# Altium schematic symbol library QUTMS_SwitchLibrary.SchLib: 6 symbols
Pins are listed as number, name and electrical type; pins without a type are passive.

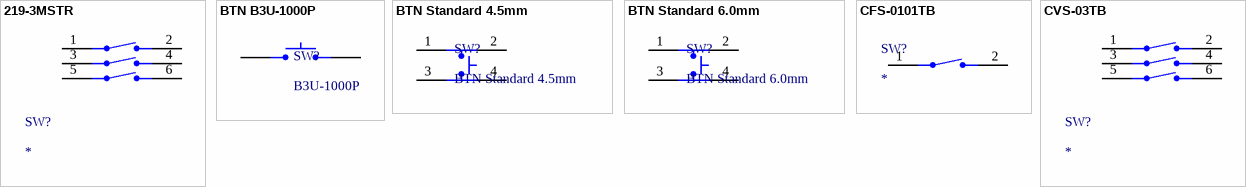
[diagram p0: symbols 219-3MSTR to CVS-03TB]

## 219-3MSTR
designator SW?
SWITCH SLIDE DIP SPST 100MA 6V
footprint 219-3MSTR
pins: 1, 2, 3, 4, 5, 6

## BTN B3U-1000P
designator SW?, comment B3U-1000P
Omron B3U-1000P Ultra Miniture Switch; ComponentLink1Description: LCSC; ComponentLink1URL: https://lcsc.com/product-detail/Tactile-Switches_BRIGHT-TSA063G50-250_C294565.html
footprint BTN B3U-1000P (OMRON B3U-1000P)
pins: 1, 2

## BTN Standard 4.5mm
designator SW?
Standard 4.5mm X 4.5mm momentary button; ComponentLink1Description: LCSC; ComponentLink1URL: https://lcsc.com/product-detail/Tactile-Switches_BRIGHT-TSA063G50-250_C294565.html
footprint BTN STANDARD 4.5mm X 4.5mm
pins: 1, 2, 3, 4

## BTN Standard 6.0mm
designator SW?
Standard 6mm X 6mm momentary button; ComponentLink1Description: LCSC; ComponentLink1URL: https://lcsc.com/product-detail/Tactile-Switches_BRIGHT-TSA063G50-250_C294565.html
footprint BTN STANDARD 6mm X 6mm
pins: 1, 2, 3, 4

## CFS-0101TB
designator SW?
SWITCH DIP 1POS SPST 100MA 6V
footprint CFS-0101TB
pins: 1, 2

## CVS-03TB
designator SW?
SWITCH SLIDE DIP SPST 100MA 6V
footprint CVS-03TB
pins: 1, 2, 3, 4, 5, 6